# Altium integrated library Atmel Industry Compatible CPLD.IntLib: 265 symbols (part 2 of 12)
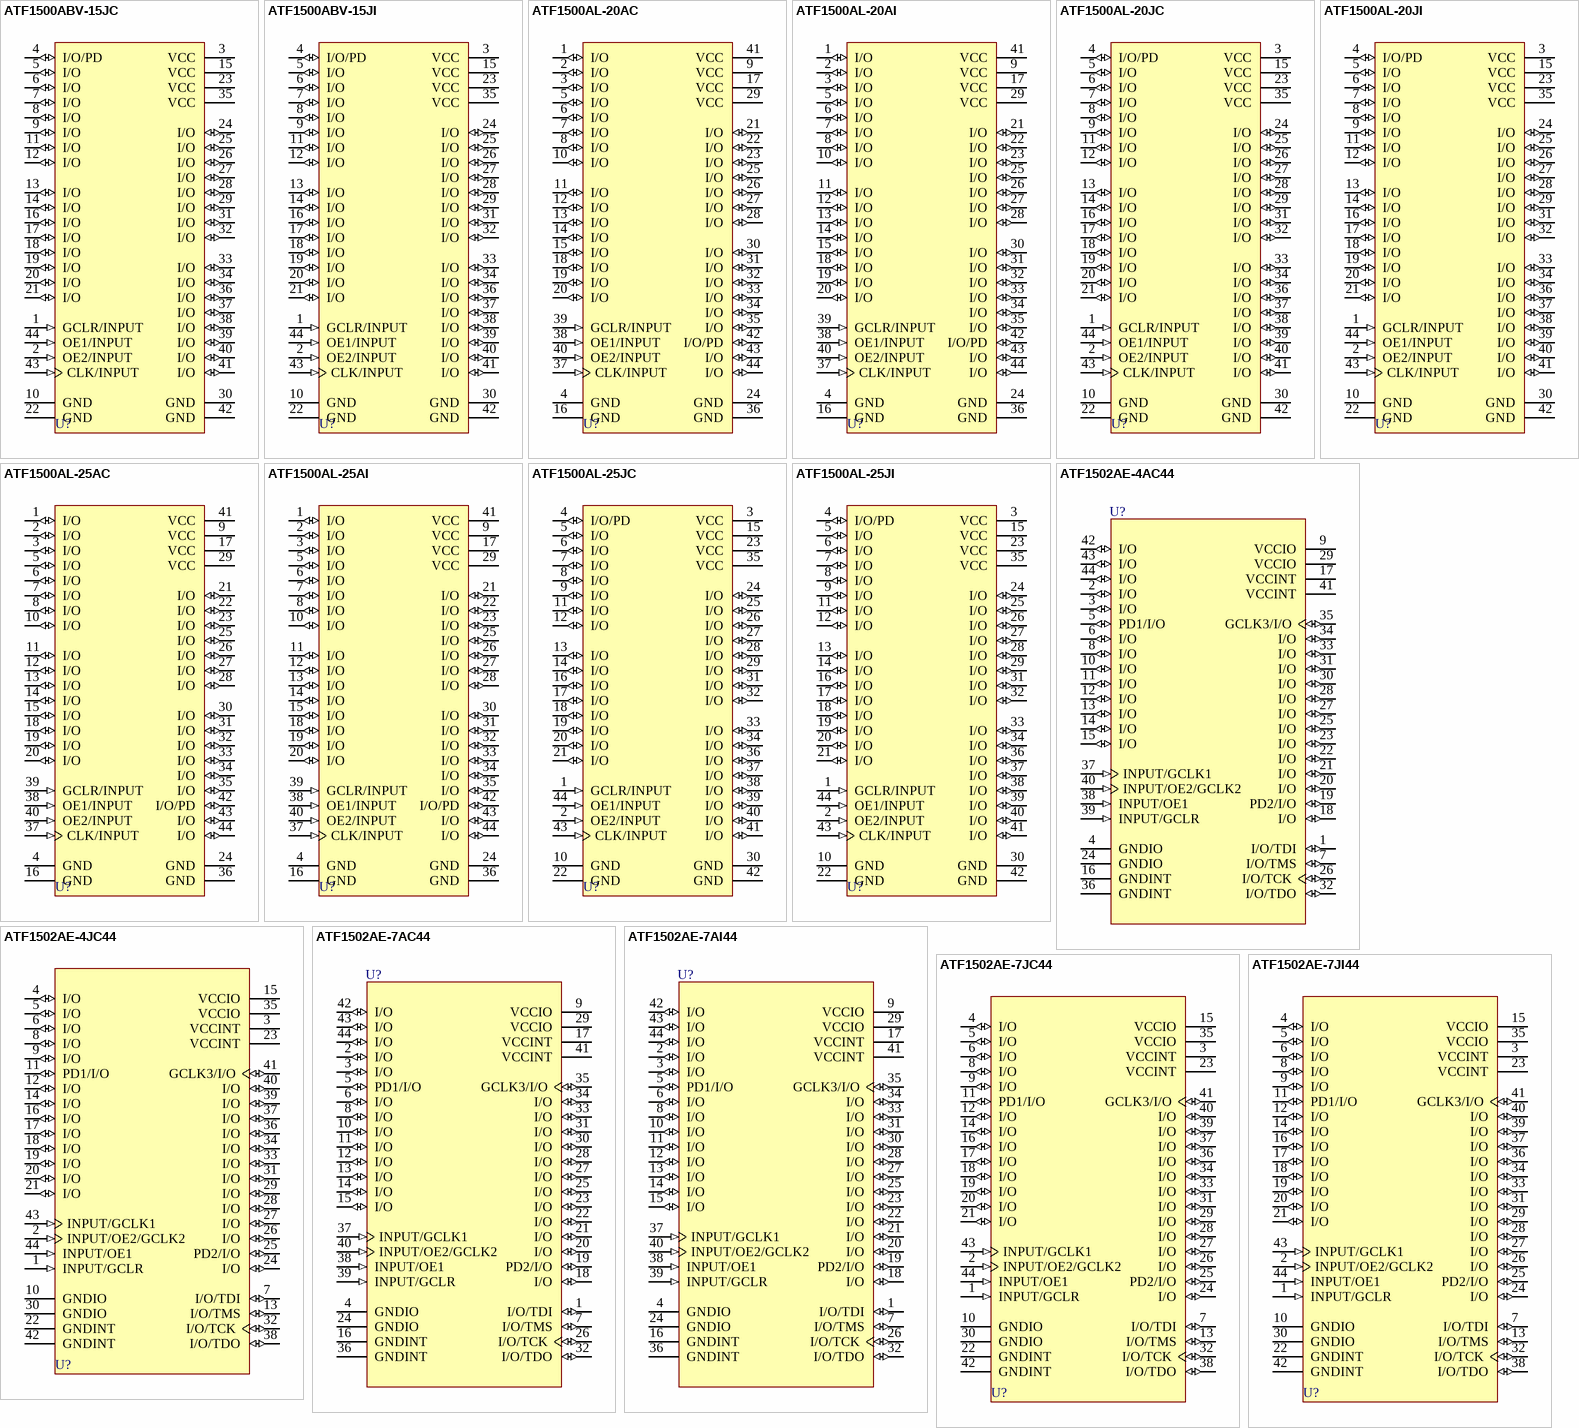
[diagram p47: symbols ATF1500ABV-15JC to ATF1502AE-7JI44]

## ATF1502AE-7AC44
designator U?
ATF1502AE 3.3V CPLD, 32 Macrocells, 44-lead TQFP, Speed Grade 7.5, Commercial Grade; Published: 19-Mar-2004; LatestRevisionDate: 13-Apr-2006; LatestRevisionNote: IPC-7351 Footprint Added.; DatasheetVersion: Rev. 2398H-PLD-8/03; PackageVersion: rev.B, Oct-2001; PackageReference: 44A; Publisher: Altium Limited; PackageDescription: 44-Pin Thin Quad Flat Pack 0.8 mm Pitch; ComponentLink1Description: Manufacturer Link; ComponentLink1URL: http://www.atmel.com/products/pld/default.asp; ComponentLink2Description: Datasheet; ComponentLink2URL: http://www.atmel.com/dyn/resources/prod_documents/DOC0995.PDF
footprint 44A_N (Thin QFP, 44-Leads, Body 10x10mm, Pitch 0.8mm, IPC Medium Density)
footprint 44A_L (Thin QFP, 44-Leads, Body 10x10mm, Pitch 0.8mm, IPC High Density)
footprint 44A_M (Thin QFP, 44-Leads, Body 10x10mm, Pitch 0.8mm, IPC Low Density)
3D model ATF1502AE-44A (44-Pin Thin Quad Flat Pack 0.8 mm Pitch)
pins: 1 I/O/TDI (io), 2 I/O (io), 3 I/O (io), 4 GNDIO (power), 5 PD1/I/O (io), 6 I/O (io), 7 I/O/TMS (io), 8 I/O (io), 9 VCCIO (power), 10 I/O (io), 11 I/O (io), 12 I/O (io), 13 I/O (io), 14 I/O (io), 15 I/O (io), 16 GNDINT (power), 17 VCCINT (power), 18 I/O (io), 19 PD2/I/O (io), 20 I/O (io), 21 I/O (io), 22 I/O (io), 23 I/O (io), 24 GNDIO (power), 25 I/O (io), 26 I/O/TCK (io), 27 I/O (io), 28 I/O (io), 29 VCCIO (power), 30 I/O (io), 31 I/O (io), 32 I/O/TDO (io), 33 I/O (io), 34 I/O (io), 35 GCLK3/I/O (io), 36 GNDINT (power), 37 INPUT/GCLK1 (in), 38 INPUT/OE1 (in), 39 INPUT/GCLR (in), 40 INPUT/OE2/GCLK2 (in), 41 VCCINT (power), 42 I/O (io), 43 I/O (io), 44 I/O (io)

## ATF1502AE-7AI44
designator U?
ATF1502AE 3.3V CPLD, 32 Macrocells, 44-lead TQFP, Speed Grade 7.5, Industrial Grade; Published: 19-Mar-2004; LatestRevisionDate: 13-Apr-2006; LatestRevisionNote: IPC-7351 Footprint Added.; DatasheetVersion: Rev. 2398H-PLD-8/03; PackageVersion: rev.B, Oct-2001; PackageReference: 44A; Publisher: Altium Limited; PackageDescription: 44-Pin Thin Quad Flat Pack 0.8 mm Pitch; ComponentLink1Description: Manufacturer Link; ComponentLink1URL: http://www.atmel.com/products/pld/default.asp; ComponentLink2Description: Datasheet; ComponentLink2URL: http://www.atmel.com/dyn/resources/prod_documents/DOC0995.PDF
footprint 44A_N (Thin QFP, 44-Leads, Body 10x10mm, Pitch 0.8mm, IPC Medium Density)
footprint 44A_L (Thin QFP, 44-Leads, Body 10x10mm, Pitch 0.8mm, IPC High Density)
footprint 44A_M (Thin QFP, 44-Leads, Body 10x10mm, Pitch 0.8mm, IPC Low Density)
3D model ATF1502AE-44A (44-Pin Thin Quad Flat Pack 0.8 mm Pitch)
pins: 1 I/O/TDI (io), 2 I/O (io), 3 I/O (io), 4 GNDIO (power), 5 PD1/I/O (io), 6 I/O (io), 7 I/O/TMS (io), 8 I/O (io), 9 VCCIO (power), 10 I/O (io), 11 I/O (io), 12 I/O (io), 13 I/O (io), 14 I/O (io), 15 I/O (io), 16 GNDINT (power), 17 VCCINT (power), 18 I/O (io), 19 PD2/I/O (io), 20 I/O (io), 21 I/O (io), 22 I/O (io), 23 I/O (io), 24 GNDIO (power), 25 I/O (io), 26 I/O/TCK (io), 27 I/O (io), 28 I/O (io), 29 VCCIO (power), 30 I/O (io), 31 I/O (io), 32 I/O/TDO (io), 33 I/O (io), 34 I/O (io), 35 GCLK3/I/O (io), 36 GNDINT (power), 37 INPUT/GCLK1 (in), 38 INPUT/OE1 (in), 39 INPUT/GCLR (in), 40 INPUT/OE2/GCLK2 (in), 41 VCCINT (power), 42 I/O (io), 43 I/O (io), 44 I/O (io)

## ATF1502AE-7JC44
designator U?
ATF1502AE 3.3V CPLD, 32 Macrocells, 44-lead PLCC, Speed Grade 7.5, Commercial Grade; Published: 19-Mar-2004; LatestRevisionDate: 13-Apr-2006; LatestRevisionNote: IPC-7351 Footprint Added.; DatasheetVersion: Rev. 2398H-PLD-8/03; PackageVersion: rev.B, Oct-2001; PackageReference: 44J; Publisher: Altium Limited; PackageDescription: 44-Pin Leaded Chip Carrier 1.27 mm Pitch; Code_JEDEC: MS-018-AC; Code_IPC: PLCC-44; ComponentLink1Description: Manufacturer Link; ComponentLink1URL: http://www.atmel.com/products/pld/default.asp; ComponentLink2Description: Datasheet; ComponentLink2URL: http://www.atmel.com/dyn/resources/prod_documents/DOC0995.PDF
footprint 44J_N (Leaded Chip Carrier, 44-Leads, Body 16.6x16.6mm, Pitch 1.27mm, IPC Medium Density)
footprint 44J_L (Leaded Chip Carrier, 44-Leads, Body 16.6x16.6mm, Pitch 1.27mm, IPC High Density)
footprint 44J_M (Leaded Chip Carrier, 44-Leads, Body 16.6x16.6mm, Pitch 1.27mm, IPC Low Density)
3D model ATF1502AE-44J (44-Pin Leaded Chip Carrier 1.27 mm Pitch)
pins: 1 INPUT/GCLR (in), 2 INPUT/OE2/GCLK2 (in), 3 VCCINT (power), 4 I/O (io), 5 I/O (io), 6 I/O (io), 7 I/O/TDI (io), 8 I/O (io), 9 I/O (io), 10 GNDIO (power), 11 PD1/I/O (io), 12 I/O (io), 13 I/O/TMS (io), 14 I/O (io), 15 VCCIO (power), 16 I/O (io), 17 I/O (io), 18 I/O (io), 19 I/O (io), 20 I/O (io), 21 I/O (io), 22 GNDINT (power), 23 VCCINT (power), 24 I/O (io), 25 PD2/I/O (io), 26 I/O (io), 27 I/O (io), 28 I/O (io), 29 I/O (io), 30 GNDIO (power), 31 I/O (io), 32 I/O/TCK (io), 33 I/O (io), 34 I/O (io), 35 VCCIO (power), 36 I/O (io), 37 I/O (io), 38 I/O/TDO (io), 39 I/O (io), 40 I/O (io), 41 GCLK3/I/O (io), 42 GNDINT (power), 43 INPUT/GCLK1 (in), 44 INPUT/OE1 (in)

## ATF1502AE-7JI44
designator U?
ATF1502AE 3.3V CPLD, 32 Macrocells, 44-lead PLCC, Speed Grade 7.5, Industrial Grade; Published: 19-Mar-2004; LatestRevisionDate: 13-Apr-2006; LatestRevisionNote: IPC-7351 Footprint Added.; DatasheetVersion: Rev. 2398H-PLD-8/03; PackageVersion: rev.B, Oct-2001; PackageReference: 44J; Publisher: Altium Limited; PackageDescription: 44-Pin Leaded Chip Carrier 1.27 mm Pitch; Code_JEDEC: MS-018-AC; Code_IPC: PLCC-44; ComponentLink1Description: Manufacturer Link; ComponentLink1URL: http://www.atmel.com/products/pld/default.asp; ComponentLink2Description: Datasheet; ComponentLink2URL: http://www.atmel.com/dyn/resources/prod_documents/DOC0995.PDF
footprint 44J_N (Leaded Chip Carrier, 44-Leads, Body 16.6x16.6mm, Pitch 1.27mm, IPC Medium Density)
footprint 44J_L (Leaded Chip Carrier, 44-Leads, Body 16.6x16.6mm, Pitch 1.27mm, IPC High Density)
footprint 44J_M (Leaded Chip Carrier, 44-Leads, Body 16.6x16.6mm, Pitch 1.27mm, IPC Low Density)
3D model ATF1502AE-44J (44-Pin Leaded Chip Carrier 1.27 mm Pitch)
pins: 1 INPUT/GCLR (in), 2 INPUT/OE2/GCLK2 (in), 3 VCCINT (power), 4 I/O (io), 5 I/O (io), 6 I/O (io), 7 I/O/TDI (io), 8 I/O (io), 9 I/O (io), 10 GNDIO (power), 11 PD1/I/O (io), 12 I/O (io), 13 I/O/TMS (io), 14 I/O (io), 15 VCCIO (power), 16 I/O (io), 17 I/O (io), 18 I/O (io), 19 I/O (io), 20 I/O (io), 21 I/O (io), 22 GNDINT (power), 23 VCCINT (power), 24 I/O (io), 25 PD2/I/O (io), 26 I/O (io), 27 I/O (io), 28 I/O (io), 29 I/O (io), 30 GNDIO (power), 31 I/O (io), 32 I/O/TCK (io), 33 I/O (io), 34 I/O (io), 35 VCCIO (power), 36 I/O (io), 37 I/O (io), 38 I/O/TDO (io), 39 I/O (io), 40 I/O (io), 41 GCLK3/I/O (io), 42 GNDINT (power), 43 INPUT/GCLK1 (in), 44 INPUT/OE1 (in)

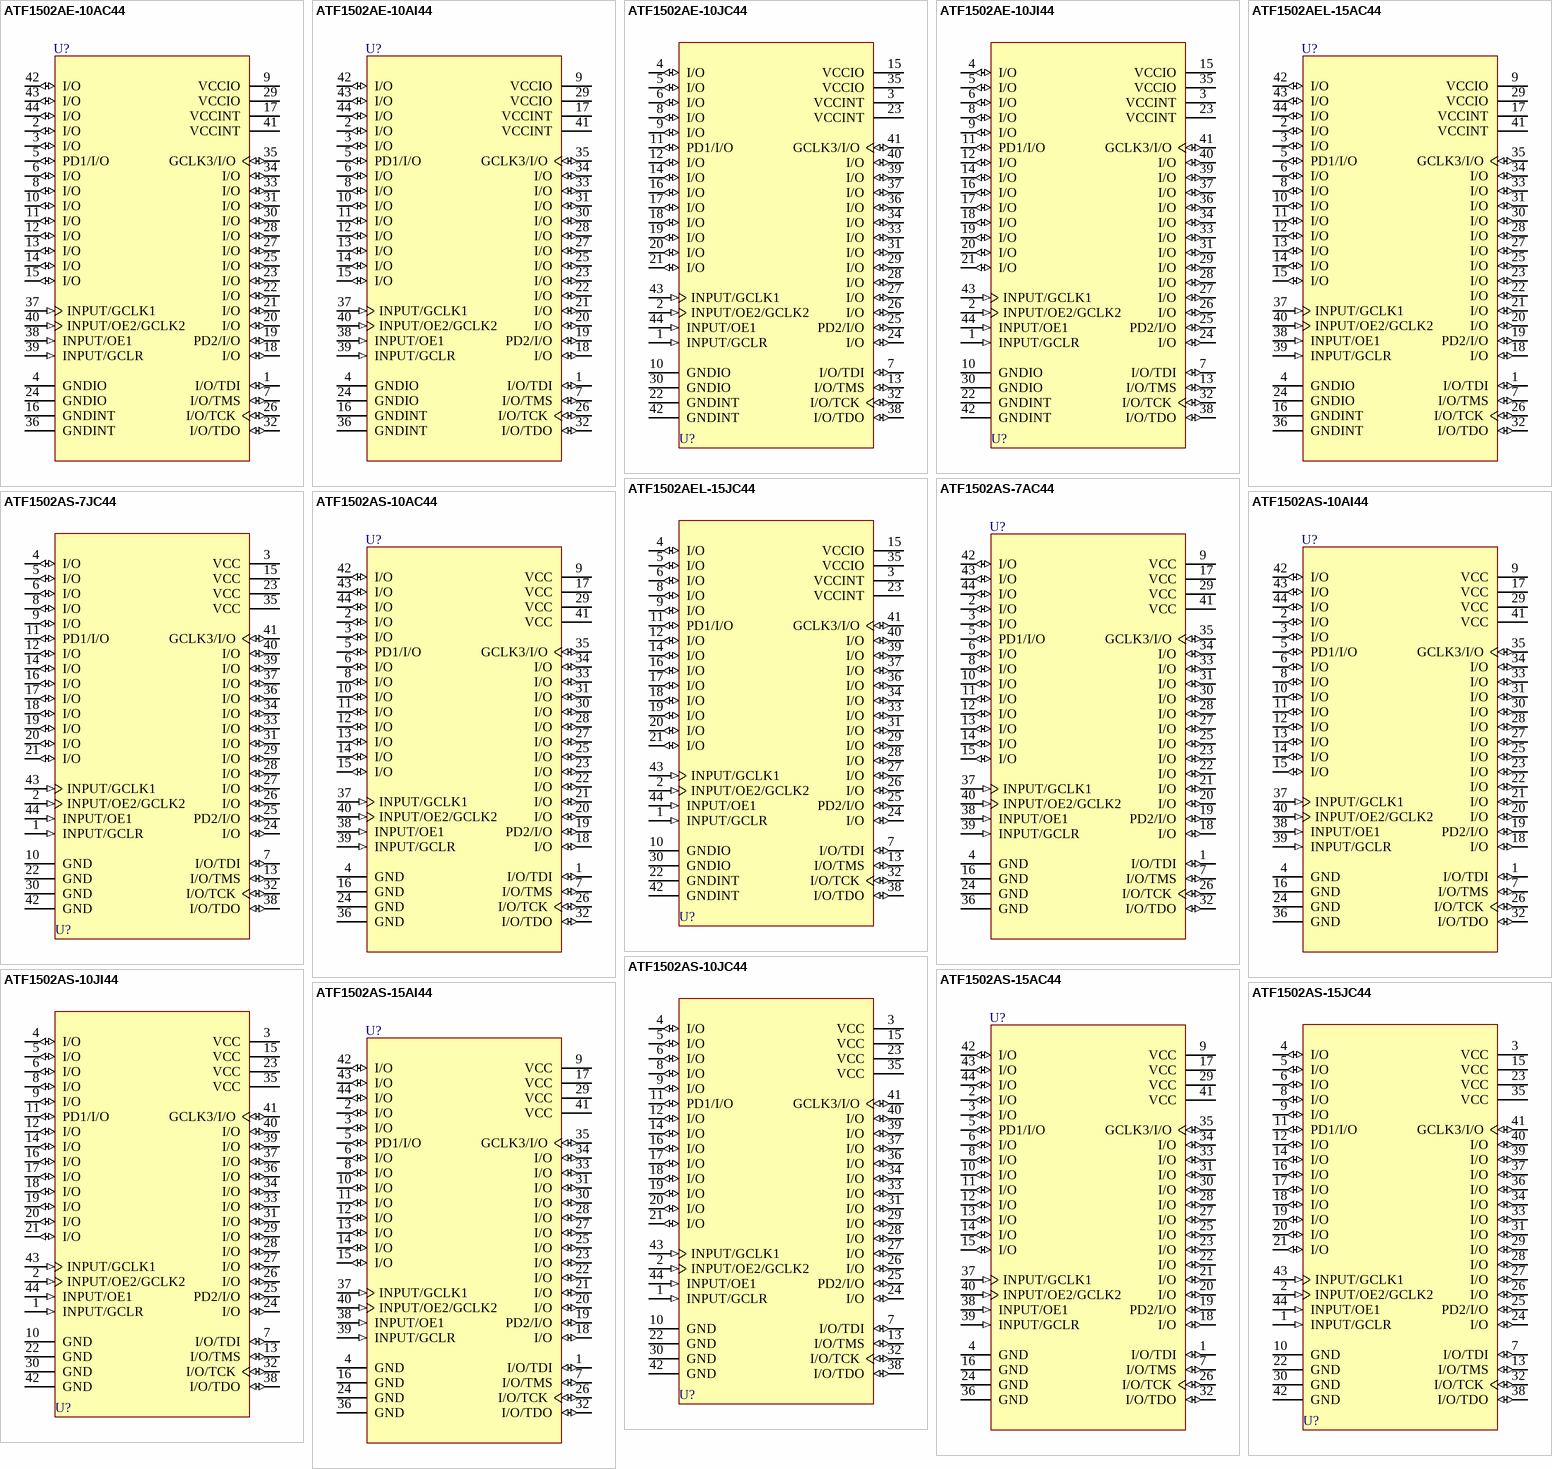
[diagram p2: symbols ATF1502AE-10AC44 to ATF1502AS-15JC44]

## ATF1502AE-10AC44
designator U?
ATF1502AE 3.3V CPLD, 32 Macrocells, 44-lead TQFP, Speed Grade 10, Commercial Grade; Published: 19-Mar-2004; LatestRevisionDate: 13-Apr-2006; LatestRevisionNote: IPC-7351 Footprint Added.; DatasheetVersion: Rev. 2398H-PLD-8/03; PackageVersion: rev.B, Oct-2001; PackageReference: 44A; Publisher: Altium Limited; PackageDescription: 44-Pin Thin Quad Flat Pack 0.8 mm Pitch; ComponentLink1Description: Manufacturer Link; ComponentLink1URL: http://www.atmel.com/products/pld/default.asp; ComponentLink2Description: Datasheet; ComponentLink2URL: http://www.atmel.com/dyn/resources/prod_documents/DOC0995.PDF
footprint 44A_N (Thin QFP, 44-Leads, Body 10x10mm, Pitch 0.8mm, IPC Medium Density)
footprint 44A_L (Thin QFP, 44-Leads, Body 10x10mm, Pitch 0.8mm, IPC High Density)
footprint 44A_M (Thin QFP, 44-Leads, Body 10x10mm, Pitch 0.8mm, IPC Low Density)
3D model ATF1502AE-44A (44-Pin Thin Quad Flat Pack 0.8 mm Pitch)
pins: 1 I/O/TDI (io), 2 I/O (io), 3 I/O (io), 4 GNDIO (power), 5 PD1/I/O (io), 6 I/O (io), 7 I/O/TMS (io), 8 I/O (io), 9 VCCIO (power), 10 I/O (io), 11 I/O (io), 12 I/O (io), 13 I/O (io), 14 I/O (io), 15 I/O (io), 16 GNDINT (power), 17 VCCINT (power), 18 I/O (io), 19 PD2/I/O (io), 20 I/O (io), 21 I/O (io), 22 I/O (io), 23 I/O (io), 24 GNDIO (power), 25 I/O (io), 26 I/O/TCK (io), 27 I/O (io), 28 I/O (io), 29 VCCIO (power), 30 I/O (io), 31 I/O (io), 32 I/O/TDO (io), 33 I/O (io), 34 I/O (io), 35 GCLK3/I/O (io), 36 GNDINT (power), 37 INPUT/GCLK1 (in), 38 INPUT/OE1 (in), 39 INPUT/GCLR (in), 40 INPUT/OE2/GCLK2 (in), 41 VCCINT (power), 42 I/O (io), 43 I/O (io), 44 I/O (io)

## ATF1502AE-10AI44
designator U?
ATF1502AE 3.3V CPLD, 32 Macrocells, 44-lead TQFP, Speed Grade 10, Industrial Grade; Published: 19-Mar-2004; LatestRevisionDate: 13-Apr-2006; LatestRevisionNote: IPC-7351 Footprint Added.; DatasheetVersion: Rev. 2398H-PLD-8/03; PackageVersion: rev.B, Oct-2001; PackageReference: 44A; Publisher: Altium Limited; PackageDescription: 44-Pin Thin Quad Flat Pack 0.8 mm Pitch; ComponentLink1Description: Manufacturer Link; ComponentLink1URL: http://www.atmel.com/products/pld/default.asp; ComponentLink2Description: Datasheet; ComponentLink2URL: http://www.atmel.com/dyn/resources/prod_documents/DOC0995.PDF
footprint 44A_N (Thin QFP, 44-Leads, Body 10x10mm, Pitch 0.8mm, IPC Medium Density)
footprint 44A_L (Thin QFP, 44-Leads, Body 10x10mm, Pitch 0.8mm, IPC High Density)
footprint 44A_M (Thin QFP, 44-Leads, Body 10x10mm, Pitch 0.8mm, IPC Low Density)
3D model ATF1502AE-44A (44-Pin Thin Quad Flat Pack 0.8 mm Pitch)
pins: 1 I/O/TDI (io), 2 I/O (io), 3 I/O (io), 4 GNDIO (power), 5 PD1/I/O (io), 6 I/O (io), 7 I/O/TMS (io), 8 I/O (io), 9 VCCIO (power), 10 I/O (io), 11 I/O (io), 12 I/O (io), 13 I/O (io), 14 I/O (io), 15 I/O (io), 16 GNDINT (power), 17 VCCINT (power), 18 I/O (io), 19 PD2/I/O (io), 20 I/O (io), 21 I/O (io), 22 I/O (io), 23 I/O (io), 24 GNDIO (power), 25 I/O (io), 26 I/O/TCK (io), 27 I/O (io), 28 I/O (io), 29 VCCIO (power), 30 I/O (io), 31 I/O (io), 32 I/O/TDO (io), 33 I/O (io), 34 I/O (io), 35 GCLK3/I/O (io), 36 GNDINT (power), 37 INPUT/GCLK1 (in), 38 INPUT/OE1 (in), 39 INPUT/GCLR (in), 40 INPUT/OE2/GCLK2 (in), 41 VCCINT (power), 42 I/O (io), 43 I/O (io), 44 I/O (io)

## ATF1502AE-10JC44
designator U?
ATF1502AE 3.3V CPLD, 32 Macrocells, 44-lead PLCC, Speed Grade 10, Commercial Grade; Published: 19-Mar-2004; LatestRevisionDate: 13-Apr-2006; LatestRevisionNote: IPC-7351 Footprint Added.; DatasheetVersion: Rev. 2398H-PLD-8/03; PackageVersion: rev.B, Oct-2001; PackageReference: 44J; Publisher: Altium Limited; PackageDescription: 44-Pin Leaded Chip Carrier 1.27 mm Pitch; Code_JEDEC: MS-018-AC; Code_IPC: PLCC-44; ComponentLink1Description: Manufacturer Link; ComponentLink1URL: http://www.atmel.com/products/pld/default.asp; ComponentLink2Description: Datasheet; ComponentLink2URL: http://www.atmel.com/dyn/resources/prod_documents/DOC0995.PDF
footprint 44J_N (Leaded Chip Carrier, 44-Leads, Body 16.6x16.6mm, Pitch 1.27mm, IPC Medium Density)
footprint 44J_L (Leaded Chip Carrier, 44-Leads, Body 16.6x16.6mm, Pitch 1.27mm, IPC High Density)
footprint 44J_M (Leaded Chip Carrier, 44-Leads, Body 16.6x16.6mm, Pitch 1.27mm, IPC Low Density)
3D model ATF1502AE-44J (44-Pin Leaded Chip Carrier 1.27 mm Pitch)
pins: 1 INPUT/GCLR (in), 2 INPUT/OE2/GCLK2 (in), 3 VCCINT (power), 4 I/O (io), 5 I/O (io), 6 I/O (io), 7 I/O/TDI (io), 8 I/O (io), 9 I/O (io), 10 GNDIO (power), 11 PD1/I/O (io), 12 I/O (io), 13 I/O/TMS (io), 14 I/O (io), 15 VCCIO (power), 16 I/O (io), 17 I/O (io), 18 I/O (io), 19 I/O (io), 20 I/O (io), 21 I/O (io), 22 GNDINT (power), 23 VCCINT (power), 24 I/O (io), 25 PD2/I/O (io), 26 I/O (io), 27 I/O (io), 28 I/O (io), 29 I/O (io), 30 GNDIO (power), 31 I/O (io), 32 I/O/TCK (io), 33 I/O (io), 34 I/O (io), 35 VCCIO (power), 36 I/O (io), 37 I/O (io), 38 I/O/TDO (io), 39 I/O (io), 40 I/O (io), 41 GCLK3/I/O (io), 42 GNDINT (power), 43 INPUT/GCLK1 (in), 44 INPUT/OE1 (in)

## ATF1502AE-10JI44
designator U?
ATF1502AE 3.3V CPLD, 32 Macrocells, 44-lead PLCC, Speed Grade 10, Industrial Grade; Published: 19-Mar-2004; LatestRevisionDate: 13-Apr-2006; LatestRevisionNote: IPC-7351 Footprint Added.; DatasheetVersion: Rev. 2398H-PLD-8/03; PackageVersion: rev.B, Oct-2001; PackageReference: 44J; Publisher: Altium Limited; PackageDescription: 44-Pin Leaded Chip Carrier 1.27 mm Pitch; Code_JEDEC: MS-018-AC; Code_IPC: PLCC-44; ComponentLink1Description: Manufacturer Link; ComponentLink1URL: http://www.atmel.com/products/pld/default.asp; ComponentLink2Description: Datasheet; ComponentLink2URL: http://www.atmel.com/dyn/resources/prod_documents/DOC0995.PDF
footprint 44J_N (Leaded Chip Carrier, 44-Leads, Body 16.6x16.6mm, Pitch 1.27mm, IPC Medium Density)
footprint 44J_L (Leaded Chip Carrier, 44-Leads, Body 16.6x16.6mm, Pitch 1.27mm, IPC High Density)
footprint 44J_M (Leaded Chip Carrier, 44-Leads, Body 16.6x16.6mm, Pitch 1.27mm, IPC Low Density)
3D model ATF1502AE-44J (44-Pin Leaded Chip Carrier 1.27 mm Pitch)
pins: 1 INPUT/GCLR (in), 2 INPUT/OE2/GCLK2 (in), 3 VCCINT (power), 4 I/O (io), 5 I/O (io), 6 I/O (io), 7 I/O/TDI (io), 8 I/O (io), 9 I/O (io), 10 GNDIO (power), 11 PD1/I/O (io), 12 I/O (io), 13 I/O/TMS (io), 14 I/O (io), 15 VCCIO (power), 16 I/O (io), 17 I/O (io), 18 I/O (io), 19 I/O (io), 20 I/O (io), 21 I/O (io), 22 GNDINT (power), 23 VCCINT (power), 24 I/O (io), 25 PD2/I/O (io), 26 I/O (io), 27 I/O (io), 28 I/O (io), 29 I/O (io), 30 GNDIO (power), 31 I/O (io), 32 I/O/TCK (io), 33 I/O (io), 34 I/O (io), 35 VCCIO (power), 36 I/O (io), 37 I/O (io), 38 I/O/TDO (io), 39 I/O (io), 40 I/O (io), 41 GCLK3/I/O (io), 42 GNDINT (power), 43 INPUT/GCLK1 (in), 44 INPUT/OE1 (in)

## ATF1502AEL-15AC44
designator U?
ATF1502AEL 3.3V CPLD, 32 Macrocells, 44-lead TQFP, Speed Grade 15, Commercial Grade; Published: 19-Mar-2004; LatestRevisionDate: 13-Apr-2006; LatestRevisionNote: IPC-7351 Footprint Added.; DatasheetVersion: Rev. 2398H-PLD-8/03; PackageVersion: rev.B, Oct-2001; PackageReference: 44A; Publisher: Altium Limited; PackageDescription: 44-Pin Thin Quad Flat Pack 0.8 mm Pitch; ComponentLink1Description: Manufacturer Link; ComponentLink1URL: http://www.atmel.com/products/pld/default.asp; ComponentLink2Description: Datasheet; ComponentLink2URL: http://www.atmel.com/dyn/resources/prod_documents/DOC0995.PDF
footprint 44A_N (Thin QFP, 44-Leads, Body 10x10mm, Pitch 0.8mm, IPC Medium Density)
footprint 44A_L (Thin QFP, 44-Leads, Body 10x10mm, Pitch 0.8mm, IPC High Density)
footprint 44A_M (Thin QFP, 44-Leads, Body 10x10mm, Pitch 0.8mm, IPC Low Density)
3D model ATF1502AEL-44A (44-Pin Thin Quad Flat Pack 0.8 mm Pitch)
pins: 1 I/O/TDI (io), 2 I/O (io), 3 I/O (io), 4 GNDIO (power), 5 PD1/I/O (io), 6 I/O (io), 7 I/O/TMS (io), 8 I/O (io), 9 VCCIO (power), 10 I/O (io), 11 I/O (io), 12 I/O (io), 13 I/O (io), 14 I/O (io), 15 I/O (io), 16 GNDINT (power), 17 VCCINT (power), 18 I/O (io), 19 PD2/I/O (io), 20 I/O (io), 21 I/O (io), 22 I/O (io), 23 I/O (io), 24 GNDIO (power), 25 I/O (io), 26 I/O/TCK (io), 27 I/O (io), 28 I/O (io), 29 VCCIO (power), 30 I/O (io), 31 I/O (io), 32 I/O/TDO (io), 33 I/O (io), 34 I/O (io), 35 GCLK3/I/O (io), 36 GNDINT (power), 37 INPUT/GCLK1 (in), 38 INPUT/OE1 (in), 39 INPUT/GCLR (in), 40 INPUT/OE2/GCLK2 (in), 41 VCCINT (power), 42 I/O (io), 43 I/O (io), 44 I/O (io)

## ATF1502AEL-15JC44
designator U?
ATF1502AEL 3.3V CPLD, 32 Macrocells, 44-lead PLCC, Speed Grade 15, Commercial Grade; Published: 19-Mar-2004; LatestRevisionDate: 13-Apr-2006; LatestRevisionNote: IPC-7351 Footprint Added.; DatasheetVersion: Rev. 2398H-PLD-8/03; PackageVersion: rev.B, Oct-2001; PackageReference: 44J; Publisher: Altium Limited; PackageDescription: 44-Pin Leaded Chip Carrier 1.27 mm Pitch; Code_JEDEC: MS-018-AC; Code_IPC: PLCC-44; ComponentLink1Description: Manufacturer Link; ComponentLink1URL: http://www.atmel.com/products/pld/default.asp; ComponentLink2Description: Datasheet; ComponentLink2URL: http://www.atmel.com/dyn/resources/prod_documents/DOC0995.PDF
footprint 44J_N (Leaded Chip Carrier, 44-Leads, Body 16.6x16.6mm, Pitch 1.27mm, IPC Medium Density)
footprint 44J_L (Leaded Chip Carrier, 44-Leads, Body 16.6x16.6mm, Pitch 1.27mm, IPC High Density)
footprint 44J_M (Leaded Chip Carrier, 44-Leads, Body 16.6x16.6mm, Pitch 1.27mm, IPC Low Density)
3D model ATF1502AEL-44J (44-Pin Leaded Chip Carrier 1.27 mm Pitch)
pins: 1 INPUT/GCLR (in), 2 INPUT/OE2/GCLK2 (in), 3 VCCINT (power), 4 I/O (io), 5 I/O (io), 6 I/O (io), 7 I/O/TDI (io), 8 I/O (io), 9 I/O (io), 10 GNDIO (power), 11 PD1/I/O (io), 12 I/O (io), 13 I/O/TMS (io), 14 I/O (io), 15 VCCIO (power), 16 I/O (io), 17 I/O (io), 18 I/O (io), 19 I/O (io), 20 I/O (io), 21 I/O (io), 22 GNDINT (power), 23 VCCINT (power), 24 I/O (io), 25 PD2/I/O (io), 26 I/O (io), 27 I/O (io), 28 I/O (io), 29 I/O (io), 30 GNDIO (power), 31 I/O (io), 32 I/O/TCK (io), 33 I/O (io), 34 I/O (io), 35 VCCIO (power), 36 I/O (io), 37 I/O (io), 38 I/O/TDO (io), 39 I/O (io), 40 I/O (io), 41 GCLK3/I/O (io), 42 GNDINT (power), 43 INPUT/GCLK1 (in), 44 INPUT/OE1 (in)

## ATF1502AS-7AC44
designator U?
ATF1502AS 5.0V CPLD, 32 Macrocells, 44-lead TQFP, Speed Grade7.5, Commercial Grade; Published: 15-Apr-2002; LatestRevisionDate: 13-Apr-2006; LatestRevisionNote: IPC-7351 Footprint Added.; DatasheetVersion: Rev. 0995J-PLD-09/02; PackageVersion: rev.B, Oct-2001; PackageReference: 44A; Publisher: Altium Limited; PackageDescription: 44-Pin Thin Quad Flat Pack 0.8 mm Pitch; ComponentLink1Description: Manufacturer Link; ComponentLink1URL: http://www.atmel.com/products/pld/default.asp; ComponentLink2Description: Datasheet; ComponentLink2URL: http://www.atmel.com/dyn/resources/prod_documents/DOC0995.PDF
footprint 44A_N (Thin QFP, 44-Leads, Body 10x10mm, Pitch 0.8mm, IPC Medium Density)
footprint 44A_L (Thin QFP, 44-Leads, Body 10x10mm, Pitch 0.8mm, IPC High Density)
footprint 44A_M (Thin QFP, 44-Leads, Body 10x10mm, Pitch 0.8mm, IPC Low Density)
3D model ATF1502AS-44A (44-Pin Thin Quad Flat Pack 0.8 mm Pitch)
pins: 1 I/O/TDI (io), 2 I/O (io), 3 I/O (io), 4 GND (power), 5 PD1/I/O (io), 6 I/O (io), 7 I/O/TMS (io), 8 I/O (io), 9 VCC (power), 10 I/O (io), 11 I/O (io), 12 I/O (io), 13 I/O (io), 14 I/O (io), 15 I/O (io), 16 GND (power), 17 VCC (power), 18 I/O (io), 19 PD2/I/O (io), 20 I/O (io), 21 I/O (io), 22 I/O (io), 23 I/O (io), 24 GND (power), 25 I/O (io), 26 I/O/TCK (io), 27 I/O (io), 28 I/O (io), 29 VCC (power), 30 I/O (io), 31 I/O (io), 32 I/O/TDO (io), 33 I/O (io), 34 I/O (io), 35 GCLK3/I/O (io), 36 GND (power), 37 INPUT/GCLK1 (in), 38 INPUT/OE1 (in), 39 INPUT/GCLR (in), 40 INPUT/OE2/GCLK2 (in), 41 VCC (power), 42 I/O (io), 43 I/O (io), 44 I/O (io)

## ATF1502AS-7JC44
designator U?
ATF1502AS 5.0V CPLD, 32 Macrocells, 44-lead PLCC, Speed Grade7.5, Commercial Grade; Published: 15-Apr-2002; LatestRevisionDate: 13-Apr-2006; LatestRevisionNote: IPC-7351 Footprint Added.; DatasheetVersion: Rev. 0995J-PLD-09/02; PackageVersion: rev.B, Oct-2001; PackageReference: 44J; Publisher: Altium Limited; PackageDescription: 44-Pin Leaded Chip Carrier 1.27 mm Pitch; Code_JEDEC: MS-018-AC; Code_IPC: PLCC-44; ComponentLink1Description: Manufacturer Link; ComponentLink1URL: http://www.atmel.com/products/pld/default.asp; ComponentLink2Description: Datasheet; ComponentLink2URL: http://www.atmel.com/dyn/resources/prod_documents/DOC0995.PDF
footprint 44J_N (Leaded Chip Carrier, 44-Leads, Body 16.6x16.6mm, Pitch 1.27mm, IPC Medium Density)
footprint 44J_L (Leaded Chip Carrier, 44-Leads, Body 16.6x16.6mm, Pitch 1.27mm, IPC High Density)
footprint 44J_M (Leaded Chip Carrier, 44-Leads, Body 16.6x16.6mm, Pitch 1.27mm, IPC Low Density)
3D model ATF1502AS-44J (44-Pin Leaded Chip Carrier 1.27 mm Pitch)
pins: 1 INPUT/GCLR (in), 2 INPUT/OE2/GCLK2 (in), 3 VCC (power), 4 I/O (io), 5 I/O (io), 6 I/O (io), 7 I/O/TDI (io), 8 I/O (io), 9 I/O (io), 10 GND (power), 11 PD1/I/O (io), 12 I/O (io), 13 I/O/TMS (io), 14 I/O (io), 15 VCC (power), 16 I/O (io), 17 I/O (io), 18 I/O (io), 19 I/O (io), 20 I/O (io), 21 I/O (io), 22 GND (power), 23 VCC (power), 24 I/O (io), 25 PD2/I/O (io), 26 I/O (io), 27 I/O (io), 28 I/O (io), 29 I/O (io), 30 GND (power), 31 I/O (io), 32 I/O/TCK (io), 33 I/O (io), 34 I/O (io), 35 VCC (power), 36 I/O (io), 37 I/O (io), 38 I/O/TDO (io), 39 I/O (io), 40 I/O (io), 41 GCLK3/I/O (io), 42 GND (power), 43 INPUT/GCLK1 (in), 44 INPUT/OE1 (in)

## ATF1502AS-10AC44
designator U?
ATF1502AS 5.0V CPLD, 32 Macrocells, 44-lead TQFP, Speed Grade10, Commercial Grade; Published: 15-Apr-2002; LatestRevisionDate: 13-Apr-2006; LatestRevisionNote: IPC-7351 Footprint Added.; DatasheetVersion: Rev. 0995J-PLD-09/02; PackageVersion: rev.B, Oct-2001; PackageReference: 44A; Publisher: Altium Limited; PackageDescription: 44-Pin Thin Quad Flat Pack 0.8 mm Pitch; ComponentLink1Description: Manufacturer Link; ComponentLink1URL: http://www.atmel.com/products/pld/default.asp; ComponentLink2Description: Datasheet; ComponentLink2URL: http://www.atmel.com/dyn/resources/prod_documents/DOC0995.PDF
footprint 44A_N (Thin QFP, 44-Leads, Body 10x10mm, Pitch 0.8mm, IPC Medium Density)
footprint 44A_L (Thin QFP, 44-Leads, Body 10x10mm, Pitch 0.8mm, IPC High Density)
footprint 44A_M (Thin QFP, 44-Leads, Body 10x10mm, Pitch 0.8mm, IPC Low Density)
3D model ATF1502AS-44A (44-Pin Thin Quad Flat Pack 0.8 mm Pitch)
pins: 1 I/O/TDI (io), 2 I/O (io), 3 I/O (io), 4 GND (power), 5 PD1/I/O (io), 6 I/O (io), 7 I/O/TMS (io), 8 I/O (io), 9 VCC (power), 10 I/O (io), 11 I/O (io), 12 I/O (io), 13 I/O (io), 14 I/O (io), 15 I/O (io), 16 GND (power), 17 VCC (power), 18 I/O (io), 19 PD2/I/O (io), 20 I/O (io), 21 I/O (io), 22 I/O (io), 23 I/O (io), 24 GND (power), 25 I/O (io), 26 I/O/TCK (io), 27 I/O (io), 28 I/O (io), 29 VCC (power), 30 I/O (io), 31 I/O (io), 32 I/O/TDO (io), 33 I/O (io), 34 I/O (io), 35 GCLK3/I/O (io), 36 GND (power), 37 INPUT/GCLK1 (in), 38 INPUT/OE1 (in), 39 INPUT/GCLR (in), 40 INPUT/OE2/GCLK2 (in), 41 VCC (power), 42 I/O (io), 43 I/O (io), 44 I/O (io)

## ATF1502AS-10AI44
designator U?
ATF1502AS 5.0V CPLD, 32 Macrocells, 44-lead TQFP, Speed Grade10, Industrial Grade; Published: 15-Apr-2002; LatestRevisionDate: 13-Apr-2006; LatestRevisionNote: IPC-7351 Footprint Added.; DatasheetVersion: Rev. 0995J-PLD-09/02; PackageVersion: rev.B, Oct-2001; PackageReference: 44A; Publisher: Altium Limited; PackageDescription: 44-Pin Thin Quad Flat Pack 0.8 mm Pitch; ComponentLink1Description: Manufacturer Link; ComponentLink1URL: http://www.atmel.com/products/pld/default.asp; ComponentLink2Description: Datasheet; ComponentLink2URL: http://www.atmel.com/dyn/resources/prod_documents/DOC0995.PDF
footprint 44A_N (Thin QFP, 44-Leads, Body 10x10mm, Pitch 0.8mm, IPC Medium Density)
footprint 44A_L (Thin QFP, 44-Leads, Body 10x10mm, Pitch 0.8mm, IPC High Density)
footprint 44A_M (Thin QFP, 44-Leads, Body 10x10mm, Pitch 0.8mm, IPC Low Density)
3D model ATF1502AS-44A (44-Pin Thin Quad Flat Pack 0.8 mm Pitch)
pins: 1 I/O/TDI (io), 2 I/O (io), 3 I/O (io), 4 GND (power), 5 PD1/I/O (io), 6 I/O (io), 7 I/O/TMS (io), 8 I/O (io), 9 VCC (power), 10 I/O (io), 11 I/O (io), 12 I/O (io), 13 I/O (io), 14 I/O (io), 15 I/O (io), 16 GND (power), 17 VCC (power), 18 I/O (io), 19 PD2/I/O (io), 20 I/O (io), 21 I/O (io), 22 I/O (io), 23 I/O (io), 24 GND (power), 25 I/O (io), 26 I/O/TCK (io), 27 I/O (io), 28 I/O (io), 29 VCC (power), 30 I/O (io), 31 I/O (io), 32 I/O/TDO (io), 33 I/O (io), 34 I/O (io), 35 GCLK3/I/O (io), 36 GND (power), 37 INPUT/GCLK1 (in), 38 INPUT/OE1 (in), 39 INPUT/GCLR (in), 40 INPUT/OE2/GCLK2 (in), 41 VCC (power), 42 I/O (io), 43 I/O (io), 44 I/O (io)

## ATF1502AS-10JC44
designator U?
ATF1502AS 5.0V CPLD, 32 Macrocells, 44-lead PLCC, Speed Grade10, Commercial Grade; Published: 15-Apr-2002; LatestRevisionDate: 13-Apr-2006; LatestRevisionNote: IPC-7351 Footprint Added.; DatasheetVersion: Rev. 0995J-PLD-09/02; PackageVersion: rev.B, Oct-2001; PackageReference: 44J; Publisher: Altium Limited; PackageDescription: 44-Pin Leaded Chip Carrier 1.27 mm Pitch; Code_JEDEC: MS-018-AC; Code_IPC: PLCC-44; ComponentLink1Description: Manufacturer Link; ComponentLink1URL: http://www.atmel.com/products/pld/default.asp; ComponentLink2Description: Datasheet; ComponentLink2URL: http://www.atmel.com/dyn/resources/prod_documents/DOC0995.PDF
footprint 44J_N (Leaded Chip Carrier, 44-Leads, Body 16.6x16.6mm, Pitch 1.27mm, IPC Medium Density)
footprint 44J_L (Leaded Chip Carrier, 44-Leads, Body 16.6x16.6mm, Pitch 1.27mm, IPC High Density)
footprint 44J_M (Leaded Chip Carrier, 44-Leads, Body 16.6x16.6mm, Pitch 1.27mm, IPC Low Density)
3D model ATF1502AS-44J (44-Pin Leaded Chip Carrier 1.27 mm Pitch)
pins: 1 INPUT/GCLR (in), 2 INPUT/OE2/GCLK2 (in), 3 VCC (power), 4 I/O (io), 5 I/O (io), 6 I/O (io), 7 I/O/TDI (io), 8 I/O (io), 9 I/O (io), 10 GND (power), 11 PD1/I/O (io), 12 I/O (io), 13 I/O/TMS (io), 14 I/O (io), 15 VCC (power), 16 I/O (io), 17 I/O (io), 18 I/O (io), 19 I/O (io), 20 I/O (io), 21 I/O (io), 22 GND (power), 23 VCC (power), 24 I/O (io), 25 PD2/I/O (io), 26 I/O (io), 27 I/O (io), 28 I/O (io), 29 I/O (io), 30 GND (power), 31 I/O (io), 32 I/O/TCK (io), 33 I/O (io), 34 I/O (io), 35 VCC (power), 36 I/O (io), 37 I/O (io), 38 I/O/TDO (io), 39 I/O (io), 40 I/O (io), 41 GCLK3/I/O (io), 42 GND (power), 43 INPUT/GCLK1 (in), 44 INPUT/OE1 (in)

## ATF1502AS-10JI44
designator U?
ATF1502AS 5.0V CPLD, 32 Macrocells, 44-lead PLCC, Speed Grade10, Industrial Grade; Published: 15-Apr-2002; LatestRevisionDate: 13-Apr-2006; LatestRevisionNote: IPC-7351 Footprint Added.; DatasheetVersion: Rev. 0995J-PLD-09/02; PackageVersion: rev.B, Oct-2001; PackageReference: 44J; Publisher: Altium Limited; PackageDescription: 44-Pin Leaded Chip Carrier 1.27 mm Pitch; Code_JEDEC: MS-018-AC; Code_IPC: PLCC-44; ComponentLink1Description: Manufacturer Link; ComponentLink1URL: http://www.atmel.com/products/pld/default.asp; ComponentLink2Description: Datasheet; ComponentLink2URL: http://www.atmel.com/dyn/resources/prod_documents/DOC0995.PDF
footprint 44J_N (Leaded Chip Carrier, 44-Leads, Body 16.6x16.6mm, Pitch 1.27mm, IPC Medium Density)
footprint 44J_L (Leaded Chip Carrier, 44-Leads, Body 16.6x16.6mm, Pitch 1.27mm, IPC High Density)
footprint 44J_M (Leaded Chip Carrier, 44-Leads, Body 16.6x16.6mm, Pitch 1.27mm, IPC Low Density)
3D model ATF1502AS-44J (44-Pin Leaded Chip Carrier 1.27 mm Pitch)
pins: 1 INPUT/GCLR (in), 2 INPUT/OE2/GCLK2 (in), 3 VCC (power), 4 I/O (io), 5 I/O (io), 6 I/O (io), 7 I/O/TDI (io), 8 I/O (io), 9 I/O (io), 10 GND (power), 11 PD1/I/O (io), 12 I/O (io), 13 I/O/TMS (io), 14 I/O (io), 15 VCC (power), 16 I/O (io), 17 I/O (io), 18 I/O (io), 19 I/O (io), 20 I/O (io), 21 I/O (io), 22 GND (power), 23 VCC (power), 24 I/O (io), 25 PD2/I/O (io), 26 I/O (io), 27 I/O (io), 28 I/O (io), 29 I/O (io), 30 GND (power), 31 I/O (io), 32 I/O/TCK (io), 33 I/O (io), 34 I/O (io), 35 VCC (power), 36 I/O (io), 37 I/O (io), 38 I/O/TDO (io), 39 I/O (io), 40 I/O (io), 41 GCLK3/I/O (io), 42 GND (power), 43 INPUT/GCLK1 (in), 44 INPUT/OE1 (in)

## ATF1502AS-15AC44
designator U?
ATF1502AS 5.0V CPLD, 32 Macrocells, 44-lead TQFP, Speed Grade15, Commercial Grade; Published: 15-Apr-2002; LatestRevisionDate: 13-Apr-2006; LatestRevisionNote: IPC-7351 Footprint Added.; DatasheetVersion: Rev. 0995J-PLD-09/02; PackageVersion: rev.B, Oct-2001; PackageReference: 44A; Publisher: Altium Limited; PackageDescription: 44-Pin Thin Quad Flat Pack 0.8 mm Pitch; ComponentLink1Description: Manufacturer Link; ComponentLink1URL: http://www.atmel.com/products/pld/default.asp; ComponentLink2Description: Datasheet; ComponentLink2URL: http://www.atmel.com/dyn/resources/prod_documents/DOC0995.PDF
footprint 44A_N (Thin QFP, 44-Leads, Body 10x10mm, Pitch 0.8mm, IPC Medium Density)
footprint 44A_L (Thin QFP, 44-Leads, Body 10x10mm, Pitch 0.8mm, IPC High Density)
footprint 44A_M (Thin QFP, 44-Leads, Body 10x10mm, Pitch 0.8mm, IPC Low Density)
3D model ATF1502AS-44A (44-Pin Thin Quad Flat Pack 0.8 mm Pitch)
pins: 1 I/O/TDI (io), 2 I/O (io), 3 I/O (io), 4 GND (power), 5 PD1/I/O (io), 6 I/O (io), 7 I/O/TMS (io), 8 I/O (io), 9 VCC (power), 10 I/O (io), 11 I/O (io), 12 I/O (io), 13 I/O (io), 14 I/O (io), 15 I/O (io), 16 GND (power), 17 VCC (power), 18 I/O (io), 19 PD2/I/O (io), 20 I/O (io), 21 I/O (io), 22 I/O (io), 23 I/O (io), 24 GND (power), 25 I/O (io), 26 I/O/TCK (io), 27 I/O (io), 28 I/O (io), 29 VCC (power), 30 I/O (io), 31 I/O (io), 32 I/O/TDO (io), 33 I/O (io), 34 I/O (io), 35 GCLK3/I/O (io), 36 GND (power), 37 INPUT/GCLK1 (in), 38 INPUT/OE1 (in), 39 INPUT/GCLR (in), 40 INPUT/OE2/GCLK2 (in), 41 VCC (power), 42 I/O (io), 43 I/O (io), 44 I/O (io)

## ATF1502AS-15AI44
designator U?
ATF1502AS 5.0V CPLD, 32 Macrocells, 44-lead TQFP, Speed Grade15, Industrial Grade; Published: 15-Apr-2002; LatestRevisionDate: 13-Apr-2006; LatestRevisionNote: IPC-7351 Footprint Added.; DatasheetVersion: Rev. 0995J-PLD-09/02; PackageVersion: rev.B, Oct-2001; PackageReference: 44A; Publisher: Altium Limited; PackageDescription: 44-Pin Thin Quad Flat Pack 0.8 mm Pitch; ComponentLink1Description: Manufacturer Link; ComponentLink1URL: http://www.atmel.com/products/pld/default.asp; ComponentLink2Description: Datasheet; ComponentLink2URL: http://www.atmel.com/dyn/resources/prod_documents/DOC0995.PDF
footprint 44A_N (Thin QFP, 44-Leads, Body 10x10mm, Pitch 0.8mm, IPC Medium Density)
footprint 44A_L (Thin QFP, 44-Leads, Body 10x10mm, Pitch 0.8mm, IPC High Density)
footprint 44A_M (Thin QFP, 44-Leads, Body 10x10mm, Pitch 0.8mm, IPC Low Density)
3D model ATF1502AS-44A (44-Pin Thin Quad Flat Pack 0.8 mm Pitch)
pins: 1 I/O/TDI (io), 2 I/O (io), 3 I/O (io), 4 GND (power), 5 PD1/I/O (io), 6 I/O (io), 7 I/O/TMS (io), 8 I/O (io), 9 VCC (power), 10 I/O (io), 11 I/O (io), 12 I/O (io), 13 I/O (io), 14 I/O (io), 15 I/O (io), 16 GND (power), 17 VCC (power), 18 I/O (io), 19 PD2/I/O (io), 20 I/O (io), 21 I/O (io), 22 I/O (io), 23 I/O (io), 24 GND (power), 25 I/O (io), 26 I/O/TCK (io), 27 I/O (io), 28 I/O (io), 29 VCC (power), 30 I/O (io), 31 I/O (io), 32 I/O/TDO (io), 33 I/O (io), 34 I/O (io), 35 GCLK3/I/O (io), 36 GND (power), 37 INPUT/GCLK1 (in), 38 INPUT/OE1 (in), 39 INPUT/GCLR (in), 40 INPUT/OE2/GCLK2 (in), 41 VCC (power), 42 I/O (io), 43 I/O (io), 44 I/O (io)

## ATF1502AS-15JC44
designator U?
ATF1502AS 5.0V CPLD, 32 Macrocells, 44-lead PLCC, Speed Grade15, Commercial Grade; Published: 15-Apr-2002; LatestRevisionDate: 13-Apr-2006; LatestRevisionNote: IPC-7351 Footprint Added.; DatasheetVersion: Rev. 0995J-PLD-09/02; PackageVersion: rev.B, Oct-2001; PackageReference: 44J; Publisher: Altium Limited; PackageDescription: 44-Pin Leaded Chip Carrier 1.27 mm Pitch; Code_JEDEC: MS-018-AC; Code_IPC: PLCC-44; ComponentLink1Description: Manufacturer Link; ComponentLink1URL: http://www.atmel.com/products/pld/default.asp; ComponentLink2Description: Datasheet; ComponentLink2URL: http://www.atmel.com/dyn/resources/prod_documents/DOC0995.PDF
footprint 44J_N (Leaded Chip Carrier, 44-Leads, Body 16.6x16.6mm, Pitch 1.27mm, IPC Medium Density)
footprint 44J_L (Leaded Chip Carrier, 44-Leads, Body 16.6x16.6mm, Pitch 1.27mm, IPC High Density)
footprint 44J_M (Leaded Chip Carrier, 44-Leads, Body 16.6x16.6mm, Pitch 1.27mm, IPC Low Density)
3D model ATF1502AS-44J (44-Pin Leaded Chip Carrier 1.27 mm Pitch)
pins: 1 INPUT/GCLR (in), 2 INPUT/OE2/GCLK2 (in), 3 VCC (power), 4 I/O (io), 5 I/O (io), 6 I/O (io), 7 I/O/TDI (io), 8 I/O (io), 9 I/O (io), 10 GND (power), 11 PD1/I/O (io), 12 I/O (io), 13 I/O/TMS (io), 14 I/O (io), 15 VCC (power), 16 I/O (io), 17 I/O (io), 18 I/O (io), 19 I/O (io), 20 I/O (io), 21 I/O (io), 22 GND (power), 23 VCC (power), 24 I/O (io), 25 PD2/I/O (io), 26 I/O (io), 27 I/O (io), 28 I/O (io), 29 I/O (io), 30 GND (power), 31 I/O (io), 32 I/O/TCK (io), 33 I/O (io), 34 I/O (io), 35 VCC (power), 36 I/O (io), 37 I/O (io), 38 I/O/TDO (io), 39 I/O (io), 40 I/O (io), 41 GCLK3/I/O (io), 42 GND (power), 43 INPUT/GCLK1 (in), 44 INPUT/OE1 (in)

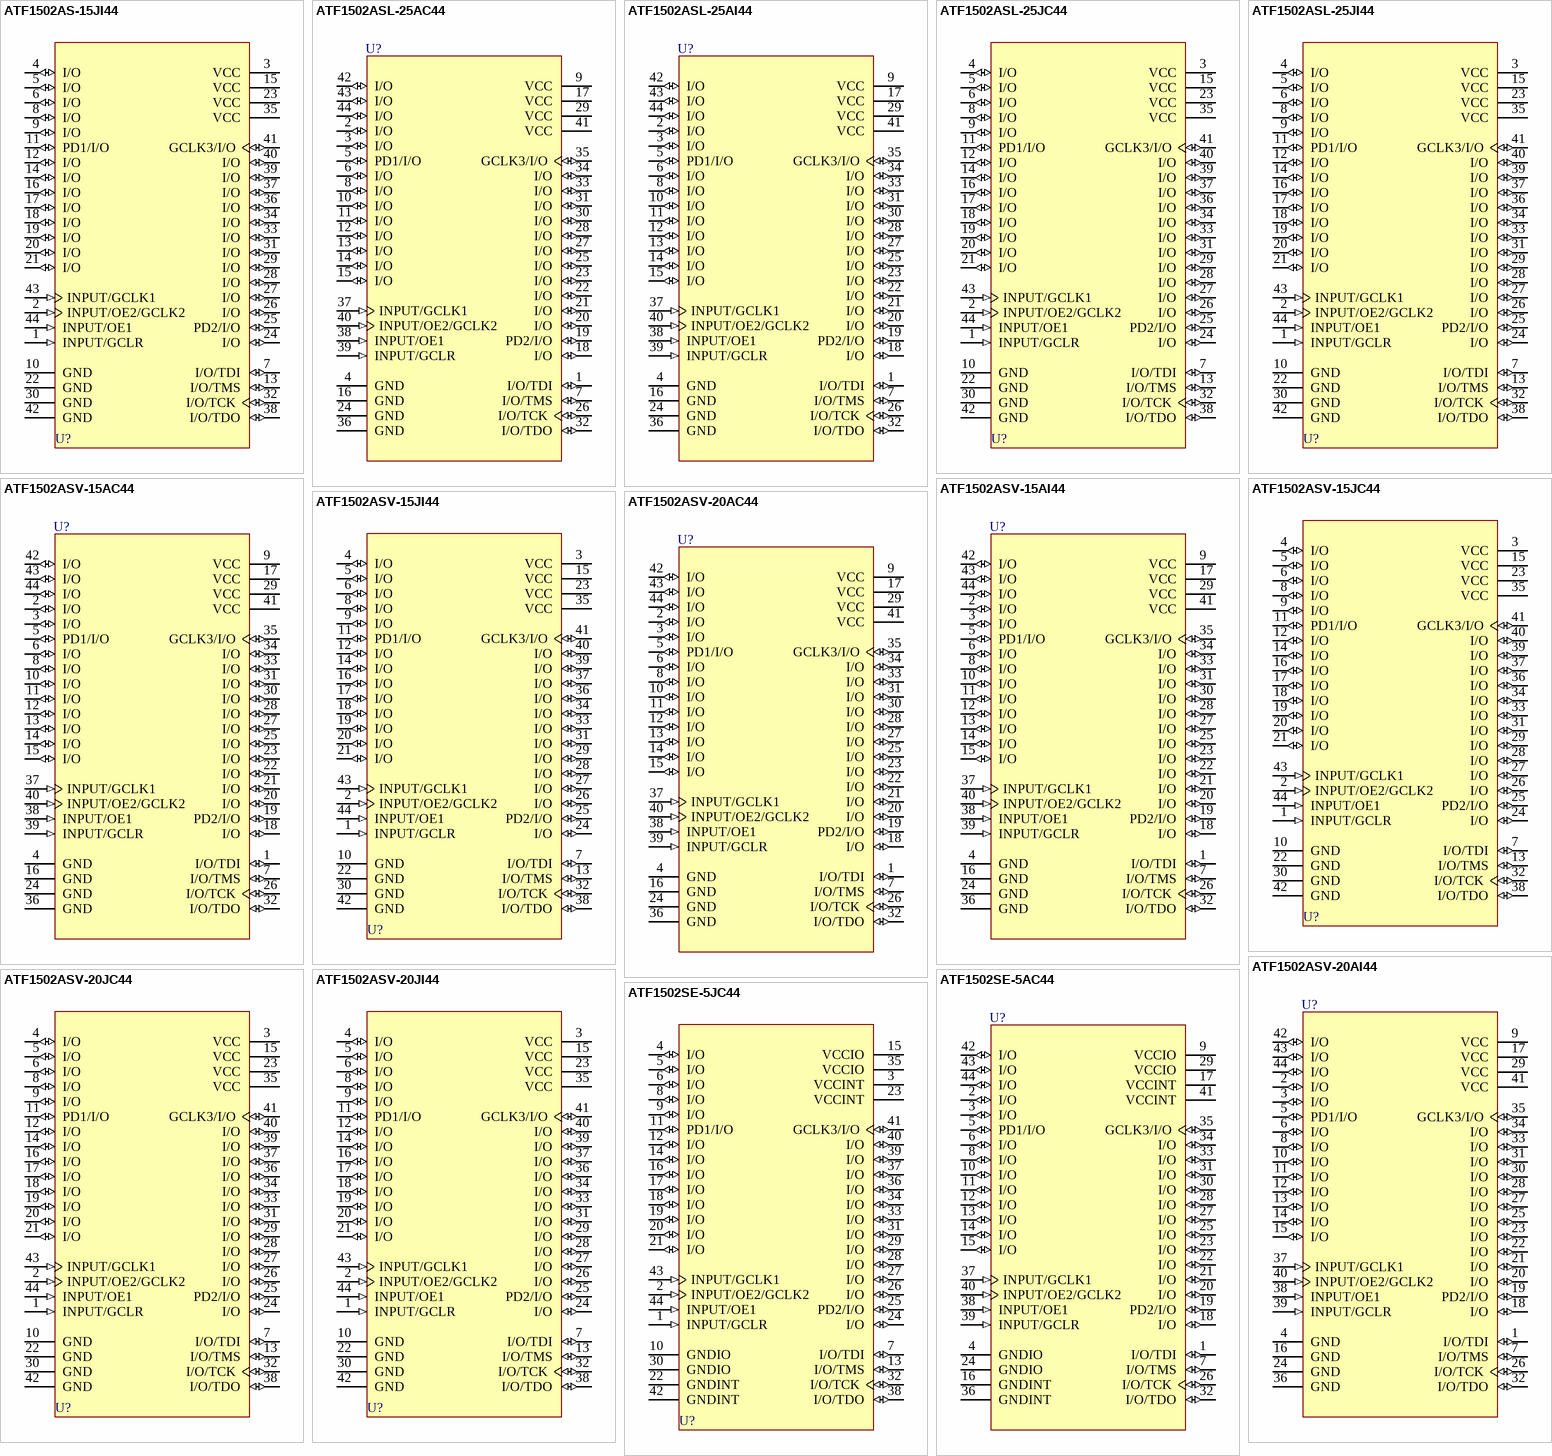
[diagram p3: symbols ATF1502AS-15JI44 to ATF1502SE-5JC44]

## ATF1502AS-15JI44
designator U?
ATF1502AS 5.0V CPLD, 32 Macrocells, 44-lead PLCC, Speed Grade15, Industrial Grade; Published: 15-Apr-2002; LatestRevisionDate: 13-Apr-2006; LatestRevisionNote: IPC-7351 Footprint Added.; DatasheetVersion: Rev. 0995J-PLD-09/02; PackageVersion: rev.B, Oct-2001; PackageReference: 44J; Publisher: Altium Limited; PackageDescription: 44-Pin Leaded Chip Carrier 1.27 mm Pitch; Code_JEDEC: MS-018-AC; Code_IPC: PLCC-44; ComponentLink1Description: Manufacturer Link; ComponentLink1URL: http://www.atmel.com/products/pld/default.asp; ComponentLink2Description: Datasheet; ComponentLink2URL: http://www.atmel.com/dyn/resources/prod_documents/DOC0995.PDF
footprint 44J_N (Leaded Chip Carrier, 44-Leads, Body 16.6x16.6mm, Pitch 1.27mm, IPC Medium Density)
footprint 44J_L (Leaded Chip Carrier, 44-Leads, Body 16.6x16.6mm, Pitch 1.27mm, IPC High Density)
footprint 44J_M (Leaded Chip Carrier, 44-Leads, Body 16.6x16.6mm, Pitch 1.27mm, IPC Low Density)
3D model ATF1502AS-44J (44-Pin Leaded Chip Carrier 1.27 mm Pitch)
pins: 1 INPUT/GCLR (in), 2 INPUT/OE2/GCLK2 (in), 3 VCC (power), 4 I/O (io), 5 I/O (io), 6 I/O (io), 7 I/O/TDI (io), 8 I/O (io), 9 I/O (io), 10 GND (power), 11 PD1/I/O (io), 12 I/O (io), 13 I/O/TMS (io), 14 I/O (io), 15 VCC (power), 16 I/O (io), 17 I/O (io), 18 I/O (io), 19 I/O (io), 20 I/O (io), 21 I/O (io), 22 GND (power), 23 VCC (power), 24 I/O (io), 25 PD2/I/O (io), 26 I/O (io), 27 I/O (io), 28 I/O (io), 29 I/O (io), 30 GND (power), 31 I/O (io), 32 I/O/TCK (io), 33 I/O (io), 34 I/O (io), 35 VCC (power), 36 I/O (io), 37 I/O (io), 38 I/O/TDO (io), 39 I/O (io), 40 I/O (io), 41 GCLK3/I/O (io), 42 GND (power), 43 INPUT/GCLK1 (in), 44 INPUT/OE1 (in)

## ATF1502ASL-25AC44
designator U?
ATF1502ASL 5.0V CPLD, 32 Macrocells, 44-lead TQFP, Speed Grade25, Commercial Grade; Published: 19-Mar-2004; LatestRevisionDate: 13-Apr-2006; LatestRevisionNote: IPC-7351 Footprint Added.; DatasheetVersion: Rev. 0995J-PLD-09/02; PackageVersion: rev.B, Oct-2001; PackageReference: 44A; Publisher: Altium Limited; PackageDescription: 44-Pin Thin Quad Flat Pack 0.8 mm Pitch; ComponentLink1Description: Manufacturer Link; ComponentLink1URL: http://www.atmel.com/products/pld/default.asp; ComponentLink2Description: Datasheet; ComponentLink2URL: http://www.atmel.com/dyn/resources/prod_documents/DOC0995.PDF
footprint 44A_N (Thin QFP, 44-Leads, Body 10x10mm, Pitch 0.8mm, IPC Medium Density)
footprint 44A_L (Thin QFP, 44-Leads, Body 10x10mm, Pitch 0.8mm, IPC High Density)
footprint 44A_M (Thin QFP, 44-Leads, Body 10x10mm, Pitch 0.8mm, IPC Low Density)
3D model ATF1502AEL-44A (44-Pin Thin Quad Flat Pack 0.8 mm Pitch)
pins: 1 I/O/TDI (io), 2 I/O (io), 3 I/O (io), 4 GND (power), 5 PD1/I/O (io), 6 I/O (io), 7 I/O/TMS (io), 8 I/O (io), 9 VCC (power), 10 I/O (io), 11 I/O (io), 12 I/O (io), 13 I/O (io), 14 I/O (io), 15 I/O (io), 16 GND (power), 17 VCC (power), 18 I/O (io), 19 PD2/I/O (io), 20 I/O (io), 21 I/O (io), 22 I/O (io), 23 I/O (io), 24 GND (power), 25 I/O (io), 26 I/O/TCK (io), 27 I/O (io), 28 I/O (io), 29 VCC (power), 30 I/O (io), 31 I/O (io), 32 I/O/TDO (io), 33 I/O (io), 34 I/O (io), 35 GCLK3/I/O (io), 36 GND (power), 37 INPUT/GCLK1 (in), 38 INPUT/OE1 (in), 39 INPUT/GCLR (in), 40 INPUT/OE2/GCLK2 (in), 41 VCC (power), 42 I/O (io), 43 I/O (io), 44 I/O (io)

## ATF1502ASL-25AI44
designator U?
ATF1502ASL 5.0V CPLD, 32 Macrocells, 44-lead TQFP, Speed Grade25, Industrial Grade; Published: 19-Mar-2004; LatestRevisionDate: 13-Apr-2006; LatestRevisionNote: IPC-7351 Footprint Added.; DatasheetVersion: Rev. 0995J-PLD-09/02; PackageVersion: rev.B, Oct-2001; PackageReference: 44A; Publisher: Altium Limited; PackageDescription: 44-Pin Thin Quad Flat Pack 0.8 mm Pitch; ComponentLink1Description: Manufacturer Link; ComponentLink1URL: http://www.atmel.com/products/pld/default.asp; ComponentLink2Description: Datasheet; ComponentLink2URL: http://www.atmel.com/dyn/resources/prod_documents/DOC0995.PDF
footprint 44A_N (Thin QFP, 44-Leads, Body 10x10mm, Pitch 0.8mm, IPC Medium Density)
footprint 44A_L (Thin QFP, 44-Leads, Body 10x10mm, Pitch 0.8mm, IPC High Density)
footprint 44A_M (Thin QFP, 44-Leads, Body 10x10mm, Pitch 0.8mm, IPC Low Density)
3D model ATF1502ASL-44A (44-Pin Thin Quad Flat Pack 0.8 mm Pitch)
pins: 1 I/O/TDI (io), 2 I/O (io), 3 I/O (io), 4 GND (power), 5 PD1/I/O (io), 6 I/O (io), 7 I/O/TMS (io), 8 I/O (io), 9 VCC (power), 10 I/O (io), 11 I/O (io), 12 I/O (io), 13 I/O (io), 14 I/O (io), 15 I/O (io), 16 GND (power), 17 VCC (power), 18 I/O (io), 19 PD2/I/O (io), 20 I/O (io), 21 I/O (io), 22 I/O (io), 23 I/O (io), 24 GND (power), 25 I/O (io), 26 I/O/TCK (io), 27 I/O (io), 28 I/O (io), 29 VCC (power), 30 I/O (io), 31 I/O (io), 32 I/O/TDO (io), 33 I/O (io), 34 I/O (io), 35 GCLK3/I/O (io), 36 GND (power), 37 INPUT/GCLK1 (in), 38 INPUT/OE1 (in), 39 INPUT/GCLR (in), 40 INPUT/OE2/GCLK2 (in), 41 VCC (power), 42 I/O (io), 43 I/O (io), 44 I/O (io)

## ATF1502ASL-25JC44
designator U?
ATF1502ASL 5.0V CPLD, 32 Macrocells, 44-lead PLCC, Speed Grade25, Commercial Grade; Published: 19-Mar-2004; LatestRevisionDate: 13-Apr-2006; LatestRevisionNote: IPC-7351 Footprint Added.; DatasheetVersion: Rev. 0995J-PLD-09/02; PackageVersion: rev.B, Oct-2001; PackageReference: 44J; Publisher: Altium Limited; PackageDescription: 44-Pin Leaded Chip Carrier 1.27 mm Pitch; Code_JEDEC: MS-018-AC; Code_IPC: PLCC-44; ComponentLink1Description: Manufacturer Link; ComponentLink1URL: http://www.atmel.com/products/pld/default.asp; ComponentLink2Description: Datasheet; ComponentLink2URL: http://www.atmel.com/dyn/resources/prod_documents/DOC0995.PDF
footprint 44J_N (Leaded Chip Carrier, 44-Leads, Body 16.6x16.6mm, Pitch 1.27mm, IPC Medium Density)
footprint 44J_L (Leaded Chip Carrier, 44-Leads, Body 16.6x16.6mm, Pitch 1.27mm, IPC High Density)
footprint 44J_M (Leaded Chip Carrier, 44-Leads, Body 16.6x16.6mm, Pitch 1.27mm, IPC Low Density)
3D model ATF1502ASL-44J (44-Pin Leaded Chip Carrier 1.27 mm Pitch)
pins: 1 INPUT/GCLR (in), 2 INPUT/OE2/GCLK2 (in), 3 VCC (power), 4 I/O (io), 5 I/O (io), 6 I/O (io), 7 I/O/TDI (io), 8 I/O (io), 9 I/O (io), 10 GND (power), 11 PD1/I/O (io), 12 I/O (io), 13 I/O/TMS (io), 14 I/O (io), 15 VCC (power), 16 I/O (io), 17 I/O (io), 18 I/O (io), 19 I/O (io), 20 I/O (io), 21 I/O (io), 22 GND (power), 23 VCC (power), 24 I/O (io), 25 PD2/I/O (io), 26 I/O (io), 27 I/O (io), 28 I/O (io), 29 I/O (io), 30 GND (power), 31 I/O (io), 32 I/O/TCK (io), 33 I/O (io), 34 I/O (io), 35 VCC (power), 36 I/O (io), 37 I/O (io), 38 I/O/TDO (io), 39 I/O (io), 40 I/O (io), 41 GCLK3/I/O (io), 42 GND (power), 43 INPUT/GCLK1 (in), 44 INPUT/OE1 (in)

## ATF1502ASL-25JI44
designator U?
ATF1502ASL 5.0V CPLD, 32 Macrocells, 44-lead PLCC, Speed Grade25, Industrial Grade; Published: 19-Mar-2004; LatestRevisionDate: 13-Apr-2006; LatestRevisionNote: IPC-7351 Footprint Added.; DatasheetVersion: Rev. 0995J-PLD-09/02; PackageVersion: rev.B, Oct-2001; PackageReference: 44J; Publisher: Altium Limited; PackageDescription: 44-Pin Leaded Chip Carrier 1.27 mm Pitch; Code_JEDEC: MS-018-AC; Code_IPC: PLCC-44; ComponentLink1Description: Manufacturer Link; ComponentLink1URL: http://www.atmel.com/products/pld/default.asp; ComponentLink2Description: Datasheet; ComponentLink2URL: http://www.atmel.com/dyn/resources/prod_documents/DOC0995.PDF
footprint 44J_N (Leaded Chip Carrier, 44-Leads, Body 16.6x16.6mm, Pitch 1.27mm, IPC Medium Density)
footprint 44J_L (Leaded Chip Carrier, 44-Leads, Body 16.6x16.6mm, Pitch 1.27mm, IPC High Density)
footprint 44J_M (Leaded Chip Carrier, 44-Leads, Body 16.6x16.6mm, Pitch 1.27mm, IPC Low Density)
3D model ATF1502ASL-44J (44-Pin Leaded Chip Carrier 1.27 mm Pitch)
pins: 1 INPUT/GCLR (in), 2 INPUT/OE2/GCLK2 (in), 3 VCC (power), 4 I/O (io), 5 I/O (io), 6 I/O (io), 7 I/O/TDI (io), 8 I/O (io), 9 I/O (io), 10 GND (power), 11 PD1/I/O (io), 12 I/O (io), 13 I/O/TMS (io), 14 I/O (io), 15 VCC (power), 16 I/O (io), 17 I/O (io), 18 I/O (io), 19 I/O (io), 20 I/O (io), 21 I/O (io), 22 GND (power), 23 VCC (power), 24 I/O (io), 25 PD2/I/O (io), 26 I/O (io), 27 I/O (io), 28 I/O (io), 29 I/O (io), 30 GND (power), 31 I/O (io), 32 I/O/TCK (io), 33 I/O (io), 34 I/O (io), 35 VCC (power), 36 I/O (io), 37 I/O (io), 38 I/O/TDO (io), 39 I/O (io), 40 I/O (io), 41 GCLK3/I/O (io), 42 GND (power), 43 INPUT/GCLK1 (in), 44 INPUT/OE1 (in)

## ATF1502ASV-15AC44
designator U?
ATF1502ASV 3.3V CPLD, 32 Macrocells, 44-lead TQFP, Speed Grade15, Commercial Grade; Published: 15-Apr-2002; LatestRevisionDate: 13-Apr-2006; LatestRevisionNote: IPC-7351 Footprint Added.; DatasheetVersion: Rev. 1615G-PLD-09/02; PackageVersion: rev.B, Oct-2001; PackageReference: 44A; Publisher: Altium Limited; PackageDescription: 44-Pin Thin Quad Flat Pack 0.8 mm Pitch; ComponentLink1Description: Manufacturer Link; ComponentLink1URL: http://www.atmel.com/products/pld/default.asp; ComponentLink2Description: Datasheet; ComponentLink2URL: http://www.atmel.com/dyn/resources/prod_documents/DOC0995.PDF
footprint 44A_N (Thin QFP, 44-Leads, Body 10x10mm, Pitch 0.8mm, IPC Medium Density)
footprint 44A_L (Thin QFP, 44-Leads, Body 10x10mm, Pitch 0.8mm, IPC High Density)
footprint 44A_M (Thin QFP, 44-Leads, Body 10x10mm, Pitch 0.8mm, IPC Low Density)
3D model ATF1502ASV-44A (44-Pin Thin Quad Flat Pack 0.8 mm Pitch)
pins: 1 I/O/TDI (io), 2 I/O (io), 3 I/O (io), 4 GND (power), 5 PD1/I/O (io), 6 I/O (io), 7 I/O/TMS (io), 8 I/O (io), 9 VCC (power), 10 I/O (io), 11 I/O (io), 12 I/O (io), 13 I/O (io), 14 I/O (io), 15 I/O (io), 16 GND (power), 17 VCC (power), 18 I/O (io), 19 PD2/I/O (io), 20 I/O (io), 21 I/O (io), 22 I/O (io), 23 I/O (io), 24 GND (power), 25 I/O (io), 26 I/O/TCK (io), 27 I/O (io), 28 I/O (io), 29 VCC (power), 30 I/O (io), 31 I/O (io), 32 I/O/TDO (io), 33 I/O (io), 34 I/O (io), 35 GCLK3/I/O (io), 36 GND (power), 37 INPUT/GCLK1 (in), 38 INPUT/OE1 (in), 39 INPUT/GCLR (in), 40 INPUT/OE2/GCLK2 (in), 41 VCC (power), 42 I/O (io), 43 I/O (io), 44 I/O (io)

## ATF1502ASV-15AI44
designator U?
ATF1502ASV 3.3V CPLD, 32 Macrocells, 44-lead TQFP, Speed Grade15, Industrial Grade; Published: 15-Apr-2002; LatestRevisionDate: 13-Apr-2006; LatestRevisionNote: IPC-7351 Footprint Added.; DatasheetVersion: Rev. 1615G-PLD-09/02; PackageVersion: rev.B, Oct-2001; PackageReference: 44A; Publisher: Altium Limited; PackageDescription: 44-Pin Thin Quad Flat Pack 0.8 mm Pitch; ComponentLink1Description: Manufacturer Link; ComponentLink1URL: http://www.atmel.com/products/pld/default.asp; ComponentLink2Description: Datasheet; ComponentLink2URL: http://www.atmel.com/dyn/resources/prod_documents/DOC0995.PDF
footprint 44A_N (Thin QFP, 44-Leads, Body 10x10mm, Pitch 0.8mm, IPC Medium Density)
footprint 44A_L (Thin QFP, 44-Leads, Body 10x10mm, Pitch 0.8mm, IPC High Density)
footprint 44A_M (Thin QFP, 44-Leads, Body 10x10mm, Pitch 0.8mm, IPC Low Density)
3D model ATF1502ASV-44A (44-Pin Thin Quad Flat Pack 0.8 mm Pitch)
pins: 1 I/O/TDI (io), 2 I/O (io), 3 I/O (io), 4 GND (power), 5 PD1/I/O (io), 6 I/O (io), 7 I/O/TMS (io), 8 I/O (io), 9 VCC (power), 10 I/O (io), 11 I/O (io), 12 I/O (io), 13 I/O (io), 14 I/O (io), 15 I/O (io), 16 GND (power), 17 VCC (power), 18 I/O (io), 19 PD2/I/O (io), 20 I/O (io), 21 I/O (io), 22 I/O (io), 23 I/O (io), 24 GND (power), 25 I/O (io), 26 I/O/TCK (io), 27 I/O (io), 28 I/O (io), 29 VCC (power), 30 I/O (io), 31 I/O (io), 32 I/O/TDO (io), 33 I/O (io), 34 I/O (io), 35 GCLK3/I/O (io), 36 GND (power), 37 INPUT/GCLK1 (in), 38 INPUT/OE1 (in), 39 INPUT/GCLR (in), 40 INPUT/OE2/GCLK2 (in), 41 VCC (power), 42 I/O (io), 43 I/O (io), 44 I/O (io)

## ATF1502ASV-15JC44
designator U?
ATF1502ASV 3.3V CPLD, 32 Macrocells, 44-lead PLCC, Speed Grade15, Commercial Grade; Published: 15-Apr-2002; LatestRevisionDate: 13-Apr-2006; LatestRevisionNote: IPC-7351 Footprint Added.; DatasheetVersion: Rev. 1615G-PLD-09/02; PackageVersion: rev.B, Oct-2001; PackageReference: 44J; Publisher: Altium Limited; PackageDescription: 44-Pin Leaded Chip Carrier 1.27 mm Pitch; Code_JEDEC: MS-018-AC; Code_IPC: PLCC-44; ComponentLink1Description: Manufacturer Link; ComponentLink1URL: http://www.atmel.com/products/pld/default.asp; ComponentLink2Description: Datasheet; ComponentLink2URL: http://www.atmel.com/dyn/resources/prod_documents/DOC0995.PDF
footprint 44J_N (Leaded Chip Carrier, 44-Leads, Body 16.6x16.6mm, Pitch 1.27mm, IPC Medium Density)
footprint 44J_L (Leaded Chip Carrier, 44-Leads, Body 16.6x16.6mm, Pitch 1.27mm, IPC High Density)
footprint 44J_M (Leaded Chip Carrier, 44-Leads, Body 16.6x16.6mm, Pitch 1.27mm, IPC Low Density)
3D model ATF1502ASV-44J (44-Pin Leaded Chip Carrier 1.27 mm Pitch)
pins: 1 INPUT/GCLR (in), 2 INPUT/OE2/GCLK2 (in), 3 VCC (power), 4 I/O (io), 5 I/O (io), 6 I/O (io), 7 I/O/TDI (io), 8 I/O (io), 9 I/O (io), 10 GND (power), 11 PD1/I/O (io), 12 I/O (io), 13 I/O/TMS (io), 14 I/O (io), 15 VCC (power), 16 I/O (io), 17 I/O (io), 18 I/O (io), 19 I/O (io), 20 I/O (io), 21 I/O (io), 22 GND (power), 23 VCC (power), 24 I/O (io), 25 PD2/I/O (io), 26 I/O (io), 27 I/O (io), 28 I/O (io), 29 I/O (io), 30 GND (power), 31 I/O (io), 32 I/O/TCK (io), 33 I/O (io), 34 I/O (io), 35 VCC (power), 36 I/O (io), 37 I/O (io), 38 I/O/TDO (io), 39 I/O (io), 40 I/O (io), 41 GCLK3/I/O (io), 42 GND (power), 43 INPUT/GCLK1 (in), 44 INPUT/OE1 (in)

## ATF1502ASV-15JI44
designator U?
ATF1502ASV 3.3V CPLD, 32 Macrocells, 44-lead PLCC, Speed Grade15, Industrial Grade; Published: 15-Apr-2002; LatestRevisionDate: 13-Apr-2006; LatestRevisionNote: IPC-7351 Footprint Added.; DatasheetVersion: Rev. 1615G-PLD-09/02; PackageVersion: rev.B, Oct-2001; PackageReference: 44J; Publisher: Altium Limited; PackageDescription: 44-Pin Leaded Chip Carrier 1.27 mm Pitch; Code_JEDEC: MS-018-AC; Code_IPC: PLCC-44; ComponentLink1Description: Manufacturer Link; ComponentLink1URL: http://www.atmel.com/products/pld/default.asp; ComponentLink2Description: Datasheet; ComponentLink2URL: http://www.atmel.com/dyn/resources/prod_documents/DOC0995.PDF
footprint 44J_N (Leaded Chip Carrier, 44-Leads, Body 16.6x16.6mm, Pitch 1.27mm, IPC Medium Density)
footprint 44J_L (Leaded Chip Carrier, 44-Leads, Body 16.6x16.6mm, Pitch 1.27mm, IPC High Density)
footprint 44J_M (Leaded Chip Carrier, 44-Leads, Body 16.6x16.6mm, Pitch 1.27mm, IPC Low Density)
3D model ATF1502ASV-44J (44-Pin Leaded Chip Carrier 1.27 mm Pitch)
pins: 1 INPUT/GCLR (in), 2 INPUT/OE2/GCLK2 (in), 3 VCC (power), 4 I/O (io), 5 I/O (io), 6 I/O (io), 7 I/O/TDI (io), 8 I/O (io), 9 I/O (io), 10 GND (power), 11 PD1/I/O (io), 12 I/O (io), 13 I/O/TMS (io), 14 I/O (io), 15 VCC (power), 16 I/O (io), 17 I/O (io), 18 I/O (io), 19 I/O (io), 20 I/O (io), 21 I/O (io), 22 GND (power), 23 VCC (power), 24 I/O (io), 25 PD2/I/O (io), 26 I/O (io), 27 I/O (io), 28 I/O (io), 29 I/O (io), 30 GND (power), 31 I/O (io), 32 I/O/TCK (io), 33 I/O (io), 34 I/O (io), 35 VCC (power), 36 I/O (io), 37 I/O (io), 38 I/O/TDO (io), 39 I/O (io), 40 I/O (io), 41 GCLK3/I/O (io), 42 GND (power), 43 INPUT/GCLK1 (in), 44 INPUT/OE1 (in)

## ATF1502ASV-20AC44
designator U?
ATF1502ASV 3.3V CPLD, 32 Macrocells, 44-lead TQFP, Speed Grade20, Commercial Grade; Published: 19-Mar-2004; LatestRevisionDate: 13-Apr-2006; LatestRevisionNote: IPC-7351 Footprint Added.; DatasheetVersion: Rev. 1615G-PLD-09/02; PackageVersion: rev.B, Oct-2001; PackageReference: 44A; Publisher: Altium Limited; PackageDescription: 44-Pin Thin Quad Flat Pack 0.8 mm Pitch; ComponentLink1Description: Manufacturer Link; ComponentLink1URL: http://www.atmel.com/products/pld/default.asp; ComponentLink2Description: Datasheet; ComponentLink2URL: http://www.atmel.com/dyn/resources/prod_documents/DOC0995.PDF
footprint 44A_N (Thin QFP, 44-Leads, Body 10x10mm, Pitch 0.8mm, IPC Medium Density)
footprint 44A_L (Thin QFP, 44-Leads, Body 10x10mm, Pitch 0.8mm, IPC High Density)
footprint 44A_M (Thin QFP, 44-Leads, Body 10x10mm, Pitch 0.8mm, IPC Low Density)
3D model ATF1502ASV-44A (44-Pin Thin Quad Flat Pack 0.8 mm Pitch)
pins: 1 I/O/TDI (io), 2 I/O (io), 3 I/O (io), 4 GND (power), 5 PD1/I/O (io), 6 I/O (io), 7 I/O/TMS (io), 8 I/O (io), 9 VCC (power), 10 I/O (io), 11 I/O (io), 12 I/O (io), 13 I/O (io), 14 I/O (io), 15 I/O (io), 16 GND (power), 17 VCC (power), 18 I/O (io), 19 PD2/I/O (io), 20 I/O (io), 21 I/O (io), 22 I/O (io), 23 I/O (io), 24 GND (power), 25 I/O (io), 26 I/O/TCK (io), 27 I/O (io), 28 I/O (io), 29 VCC (power), 30 I/O (io), 31 I/O (io), 32 I/O/TDO (io), 33 I/O (io), 34 I/O (io), 35 GCLK3/I/O (io), 36 GND (power), 37 INPUT/GCLK1 (in), 38 INPUT/OE1 (in), 39 INPUT/GCLR (in), 40 INPUT/OE2/GCLK2 (in), 41 VCC (power), 42 I/O (io), 43 I/O (io), 44 I/O (io)

## ATF1502ASV-20AI44
designator U?
ATF1502ASV 3.3V CPLD, 32 Macrocells, 44-lead TQFP, Speed Grade20, Industrial Grade; Published: 19-Mar-2004; LatestRevisionDate: 13-Apr-2006; LatestRevisionNote: IPC-7351 Footprint Added.; DatasheetVersion: Rev. 1615G-PLD-09/02; PackageVersion: rev.B, Oct-2001; PackageReference: 44A; Publisher: Altium Limited; PackageDescription: 44-Pin Thin Quad Flat Pack 0.8 mm Pitch; ComponentLink1Description: Manufacturer Link; ComponentLink1URL: http://www.atmel.com/products/pld/default.asp; ComponentLink2Description: Datasheet; ComponentLink2URL: http://www.atmel.com/dyn/resources/prod_documents/DOC0995.PDF
footprint 44A_N (Thin QFP, 44-Leads, Body 10x10mm, Pitch 0.8mm, IPC Medium Density)
footprint 44A_L (Thin QFP, 44-Leads, Body 10x10mm, Pitch 0.8mm, IPC High Density)
footprint 44A_M (Thin QFP, 44-Leads, Body 10x10mm, Pitch 0.8mm, IPC Low Density)
3D model ATF1502ASV-44A (44-Pin Thin Quad Flat Pack 0.8 mm Pitch)
pins: 1 I/O/TDI (io), 2 I/O (io), 3 I/O (io), 4 GND (power), 5 PD1/I/O (io), 6 I/O (io), 7 I/O/TMS (io), 8 I/O (io), 9 VCC (power), 10 I/O (io), 11 I/O (io), 12 I/O (io), 13 I/O (io), 14 I/O (io), 15 I/O (io), 16 GND (power), 17 VCC (power), 18 I/O (io), 19 PD2/I/O (io), 20 I/O (io), 21 I/O (io), 22 I/O (io), 23 I/O (io), 24 GND (power), 25 I/O (io), 26 I/O/TCK (io), 27 I/O (io), 28 I/O (io), 29 VCC (power), 30 I/O (io), 31 I/O (io), 32 I/O/TDO (io), 33 I/O (io), 34 I/O (io), 35 GCLK3/I/O (io), 36 GND (power), 37 INPUT/GCLK1 (in), 38 INPUT/OE1 (in), 39 INPUT/GCLR (in), 40 INPUT/OE2/GCLK2 (in), 41 VCC (power), 42 I/O (io), 43 I/O (io), 44 I/O (io)